# Altium footprint library TerminalBlock.PcbLib: 56 footprints (part 3 of 4)
Each footprint in its own frame and in the unit in brackets; x right, y up, seen from the top. Pads: shape width x height; smd on the part's side, far side on the other; paste and mask are expansions set on the pad; w line width, h text height; cw(c..) or ccw(c..) is an arc to the next point about the centre after c.
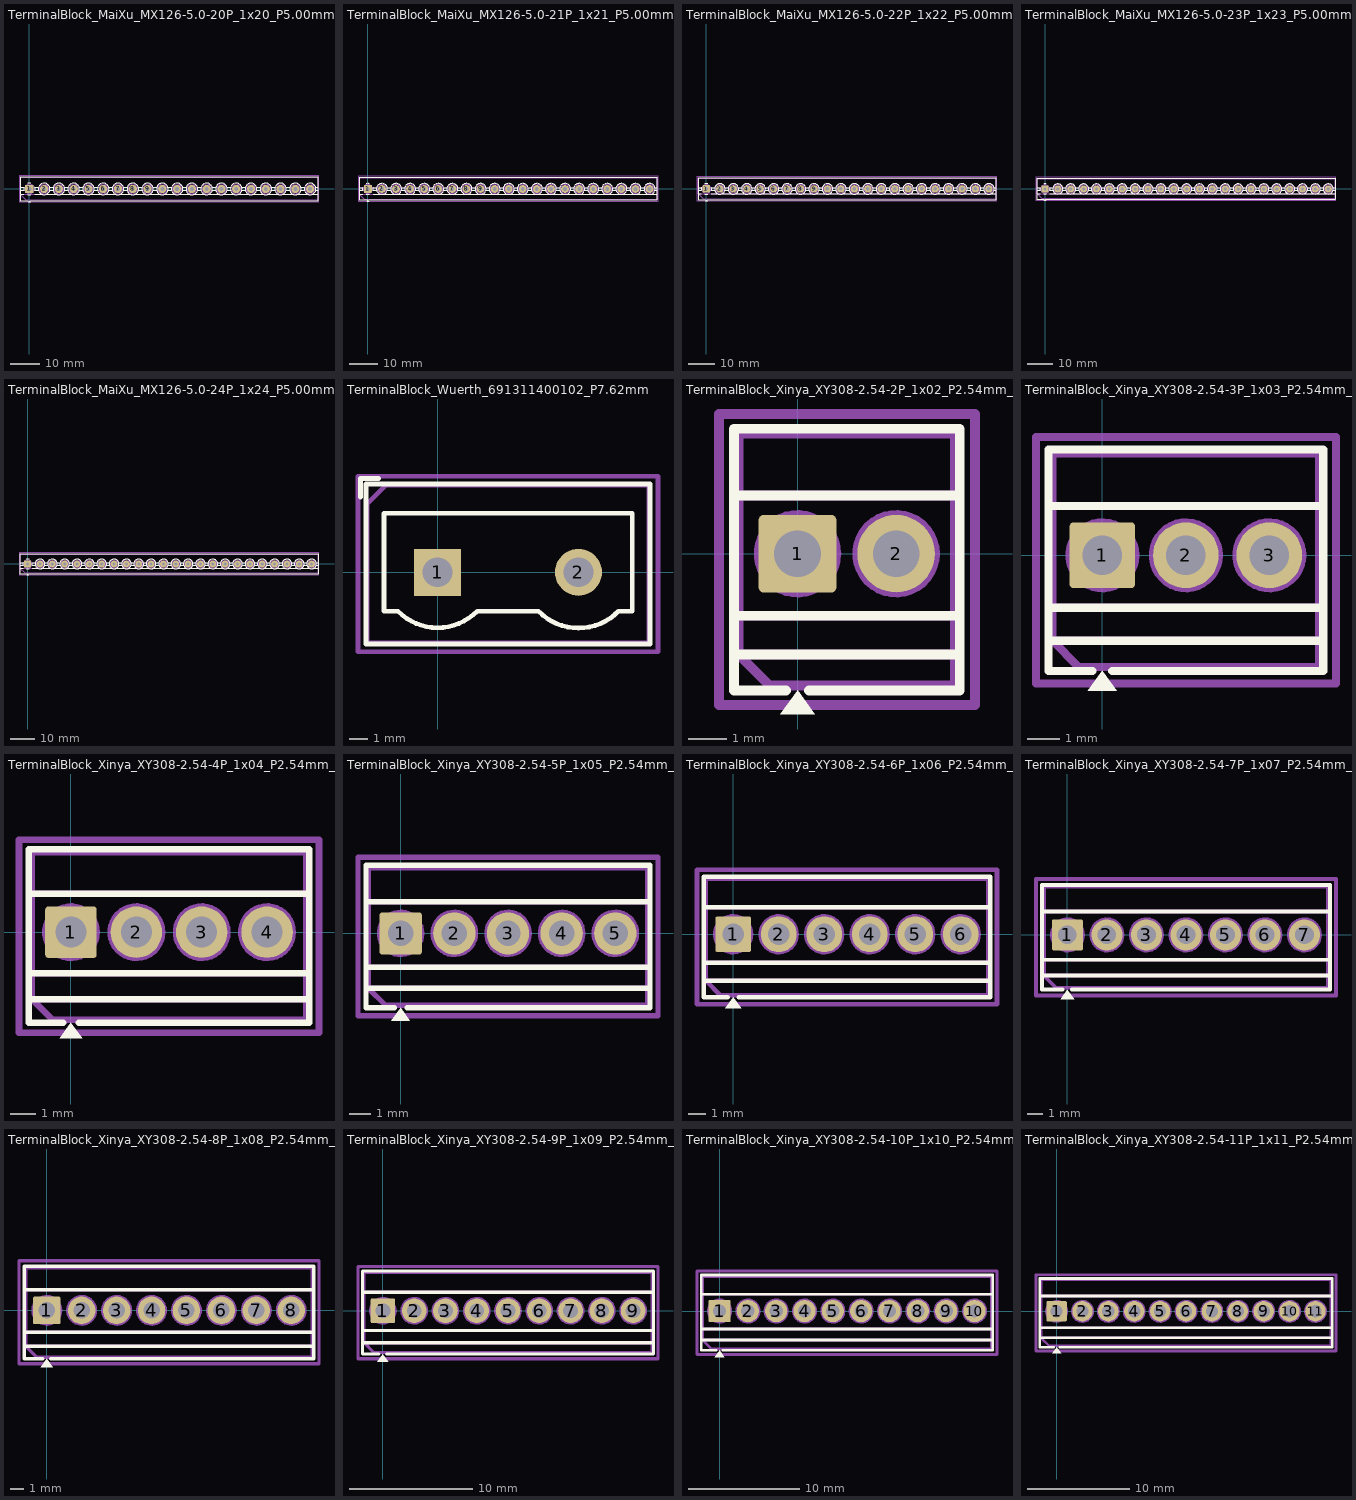
[diagram p2: the footprints below, top view; thin cyan lines are the x and y axes]

## TerminalBlock_MaiXu_MX126-5.0-20P_1x20_P5.00mm [mm]
pads (20):
  rrect9% 2.8x2.8 hole 1.3: 1(0,0)
  round 2.8 hole 1.3: 2(5,0) 3(10,0) 4(15,0) 5(20,0) 6(25,0) 7(30,0) 8(35,0) 9(40,0) 10(45,0) 11(50,0) 12(55,0) 13(60,0) 14(65,0) 15(70,0) 16(75,0) 17(80,0) 18(85,0) 19(90,0) 20(95,0)
F.SilkS:
  drawing of 168 lines, arcs and shapes, not listed
F.CrtYd:
  lines w0.254: -3.5,-4.31 -3.5,4.5 98,4.5 98,-4.31 -3.5,-4.31
F.Fab:
  circle w0.254: c0,0 r1.6
  circle w0.254: c5,0 r1.6
  circle w0.254: c10,0 r1.6
  circle w0.254: c15,0 r1.6
  circle w0.254: c20,0 r1.6
  circle w0.254: c25,0 r1.6
  circle w0.254: c30,0 r1.6
  circle w0.254: c35,0 r1.6
  circle w0.254: c40,0 r1.6
  circle w0.254: c45,0 r1.6
  circle w0.254: c50,0 r1.6
  circle w0.254: c55,0 r1.6
  circle w0.254: c60,0 r1.6
  circle w0.254: c65,0 r1.6
  circle w0.254: c70,0 r1.6
  circle w0.254: c75,0 r1.6
  circle w0.254: c80,0 r1.6
  circle w0.254: c85,0 r1.6
  circle w0.254: c90,0 r1.6
  circle w0.254: c95,0 r1.6
  lines w0.254: -3,-1.8 97.5,-1.8 ; -3,-0.5 97.5,-0.5 ; -3,0.5 97.5,0.5 ; -1.214,-1.018 1.018,1.213 ; -1.018,-1.213 1.213,1.018 ; 3.786,-1.018 6.018,1.213 ; 3.982,-1.213 6.213,1.018 ; 8.786,-1.018 11.018,1.213 ; 8.982,-1.213 11.213,1.018 ; 13.786,-1.018 16.018,1.213 ; 13.982,-1.213 16.213,1.018 ; 18.786,-1.018 21.018,1.213 ; 18.982,-1.213 21.213,1.018 ; 23.786,-1.018 26.018,1.213 ; 23.982,-1.213 26.213,1.018 ; 28.786,-1.018 31.018,1.213 ; 28.982,-1.213 31.213,1.018 ; 33.786,-1.018 36.018,1.213 ; 33.982,-1.213 36.213,1.018 ; 38.786,-1.018 41.018,1.213 ; 38.982,-1.213 41.213,1.018 ; 43.786,-1.018 46.018,1.213 ; 43.982,-1.213 46.213,1.018 ; 48.786,-1.018 51.018,1.213 ; 48.982,-1.213 51.213,1.018 ; 53.786,-1.018 56.018,1.213 ; 53.982,-1.213 56.213,1.018 ; 58.786,-1.018 61.018,1.213 ; 58.982,-1.213 61.213,1.018 ; 63.786,-1.018 66.018,1.213 ; 63.982,-1.213 66.213,1.018 ; 68.786,-1.018 71.018,1.213 ; 68.982,-1.213 71.213,1.018 ; 73.786,-1.018 76.018,1.213 ; 73.982,-1.213 76.213,1.018 ; 78.786,-1.018 81.018,1.213 ; 78.982,-1.213 81.213,1.018 ; 83.786,-1.018 86.018,1.213 ; 83.982,-1.213 86.213,1.018 ; 88.786,-1.018 91.018,1.213 ; 88.982,-1.213 91.213,1.018 ; 93.786,-1.018 96.018,1.213 ; 93.982,-1.213 96.213,1.018 ; -3,-1.85 -3,4 97.5,4 97.5,-3.8 -1.05,-3.8 -3,-1.85
  text "'.Designator'" at 45.811,-3.048 h1

## TerminalBlock_MaiXu_MX126-5.0-21P_1x21_P5.00mm [mm]
pads (21):
  rrect9% 2.8x2.8 hole 1.3: 1(0,0)
  round 2.8 hole 1.3: 2(5,0) 3(10,0) 4(15,0) 5(20,0) 6(25,0) 7(30,0) 8(35,0) 9(40,0) 10(45,0) 11(50,0) 12(55,0) 13(60,0) 14(65,0) 15(70,0) 16(75,0) 17(80,0) 18(85,0) 19(90,0) 20(95,0) 21(100,0)
F.SilkS:
  drawing of 176 lines, arcs and shapes, not listed
F.CrtYd:
  lines w0.254: -3.5,-4.31 -3.5,4.5 103,4.5 103,-4.31 -3.5,-4.31
F.Fab:
  circle w0.254: c0,0 r1.6
  circle w0.254: c5,0 r1.6
  circle w0.254: c10,0 r1.6
  circle w0.254: c15,0 r1.6
  circle w0.254: c20,0 r1.6
  circle w0.254: c25,0 r1.6
  circle w0.254: c30,0 r1.6
  circle w0.254: c35,0 r1.6
  circle w0.254: c40,0 r1.6
  circle w0.254: c45,0 r1.6
  circle w0.254: c50,0 r1.6
  circle w0.254: c55,0 r1.6
  circle w0.254: c60,0 r1.6
  circle w0.254: c65,0 r1.6
  circle w0.254: c70,0 r1.6
  circle w0.254: c75,0 r1.6
  circle w0.254: c80,0 r1.6
  circle w0.254: c85,0 r1.6
  circle w0.254: c90,0 r1.6
  circle w0.254: c95,0 r1.6
  circle w0.254: c100,0 r1.6
  lines w0.254: -3,-1.8 102.5,-1.8 ; -3,-0.5 102.5,-0.5 ; -3,0.5 102.5,0.5 ; -1.214,-1.018 1.018,1.213 ; -1.018,-1.213 1.213,1.018 ; 3.786,-1.018 6.018,1.213 ; 3.982,-1.213 6.213,1.018 ; 8.786,-1.018 11.018,1.213 ; 8.982,-1.213 11.213,1.018 ; 13.786,-1.018 16.018,1.213 ; 13.982,-1.213 16.213,1.018 ; 18.786,-1.018 21.018,1.213 ; 18.982,-1.213 21.213,1.018 ; 23.786,-1.018 26.018,1.213 ; 23.982,-1.213 26.213,1.018 ; 28.786,-1.018 31.018,1.213 ; 28.982,-1.213 31.213,1.018 ; 33.786,-1.018 36.018,1.213 ; 33.982,-1.213 36.213,1.018 ; 38.786,-1.018 41.018,1.213 ; 38.982,-1.213 41.213,1.018 ; 43.786,-1.018 46.018,1.213 ; 43.982,-1.213 46.213,1.018 ; 48.786,-1.018 51.018,1.213 ; 48.982,-1.213 51.213,1.018 ; 53.786,-1.018 56.018,1.213 ; 53.982,-1.213 56.213,1.018 ; 58.786,-1.018 61.018,1.213 ; 58.982,-1.213 61.213,1.018 ; 63.786,-1.018 66.018,1.213 ; 63.982,-1.213 66.213,1.018 ; 68.786,-1.018 71.018,1.213 ; 68.982,-1.213 71.213,1.018 ; 73.786,-1.018 76.018,1.213 ; 73.982,-1.213 76.213,1.018 ; 78.786,-1.018 81.018,1.213 ; 78.982,-1.213 81.213,1.018 ; 83.786,-1.018 86.018,1.213 ; 83.982,-1.213 86.213,1.018 ; 88.786,-1.018 91.018,1.213 ; 88.982,-1.213 91.213,1.018 ; 93.786,-1.018 96.018,1.213 ; 93.982,-1.213 96.213,1.018 ; 98.786,-1.018 101.018,1.213 ; 98.982,-1.213 101.213,1.018 ; -3,-1.85 -3,4 102.5,4 102.5,-3.8 -1.05,-3.8 -3,-1.85
  text "'.Designator'" at 48.311,-3.048 h1

## TerminalBlock_MaiXu_MX126-5.0-22P_1x22_P5.00mm [mm]
pads (22):
  rrect9% 2.8x2.8 hole 1.3: 1(0,0)
  round 2.8 hole 1.3: 2(5,0) 3(10,0) 4(15,0) 5(20,0) 6(25,0) 7(30,0) 8(35,0) 9(40,0) 10(45,0) 11(50,0) 12(55,0) 13(60,0) 14(65,0) 15(70,0) 16(75,0) 17(80,0) 18(85,0) 19(90,0) 20(95,0) 21(100,0) 22(105,0)
F.SilkS:
  drawing of 184 lines, arcs and shapes, not listed
F.CrtYd:
  lines w0.254: -3.5,-4.31 -3.5,4.5 108,4.5 108,-4.31 -3.5,-4.31
F.Fab:
  circle w0.254: c0,0 r1.6
  circle w0.254: c5,0 r1.6
  circle w0.254: c10,0 r1.6
  circle w0.254: c15,0 r1.6
  circle w0.254: c20,0 r1.6
  circle w0.254: c25,0 r1.6
  circle w0.254: c30,0 r1.6
  circle w0.254: c35,0 r1.6
  circle w0.254: c40,0 r1.6
  circle w0.254: c45,0 r1.6
  circle w0.254: c50,0 r1.6
  circle w0.254: c55,0 r1.6
  circle w0.254: c60,0 r1.6
  circle w0.254: c65,0 r1.6
  circle w0.254: c70,0 r1.6
  circle w0.254: c75,0 r1.6
  circle w0.254: c80,0 r1.6
  circle w0.254: c85,0 r1.6
  circle w0.254: c90,0 r1.6
  circle w0.254: c95,0 r1.6
  circle w0.254: c100,0 r1.6
  circle w0.254: c105,0 r1.6
  lines w0.254: -3,-1.8 107.5,-1.8 ; -3,-0.5 107.5,-0.5 ; -3,0.5 107.5,0.5 ; -1.214,-1.018 1.018,1.213 ; -1.018,-1.213 1.213,1.018 ; 3.786,-1.018 6.018,1.213 ; 3.982,-1.213 6.213,1.018 ; 8.786,-1.018 11.018,1.213 ; 8.982,-1.213 11.213,1.018 ; 13.786,-1.018 16.018,1.213 ; 13.982,-1.213 16.213,1.018 ; 18.786,-1.018 21.018,1.213 ; 18.982,-1.213 21.213,1.018 ; 23.786,-1.018 26.018,1.213 ; 23.982,-1.213 26.213,1.018 ; 28.786,-1.018 31.018,1.213 ; 28.982,-1.213 31.213,1.018 ; 33.786,-1.018 36.018,1.213 ; 33.982,-1.213 36.213,1.018 ; 38.786,-1.018 41.018,1.213 ; 38.982,-1.213 41.213,1.018 ; 43.786,-1.018 46.018,1.213 ; 43.982,-1.213 46.213,1.018 ; 48.786,-1.018 51.018,1.213 ; 48.982,-1.213 51.213,1.018 ; 53.786,-1.018 56.018,1.213 ; 53.982,-1.213 56.213,1.018 ; 58.786,-1.018 61.018,1.213 ; 58.982,-1.213 61.213,1.018 ; 63.786,-1.018 66.018,1.213 ; 63.982,-1.213 66.213,1.018 ; 68.786,-1.018 71.018,1.213 ; 68.982,-1.213 71.213,1.018 ; 73.786,-1.018 76.018,1.213 ; 73.982,-1.213 76.213,1.018 ; 78.786,-1.018 81.018,1.213 ; 78.982,-1.213 81.213,1.018 ; 83.786,-1.018 86.018,1.213 ; 83.982,-1.213 86.213,1.018 ; 88.786,-1.018 91.018,1.213 ; 88.982,-1.213 91.213,1.018 ; 93.786,-1.018 96.018,1.213 ; 93.982,-1.213 96.213,1.018 ; 98.786,-1.018 101.018,1.213 ; 98.982,-1.213 101.213,1.018 ; 103.786,-1.018 106.018,1.213 ; 103.982,-1.213 106.213,1.018 ; -3,-1.85 -3,4 107.5,4 107.5,-3.8 -1.05,-3.8 -3,-1.85
  text "'.Designator'" at 50.811,-3.048 h1

## TerminalBlock_MaiXu_MX126-5.0-23P_1x23_P5.00mm [mm]
pads (23):
  rrect9% 2.8x2.8 hole 1.3: 1(0,0)
  round 2.8 hole 1.3: 2(5,0) 3(10,0) 4(15,0) 5(20,0) 6(25,0) 7(30,0) 8(35,0) 9(40,0) 10(45,0) 11(50,0) 12(55,0) 13(60,0) 14(65,0) 15(70,0) 16(75,0) 17(80,0) 18(85,0) 19(90,0) 20(95,0) 21(100,0) 22(105,0) 23(110,0)
F.SilkS:
  drawing of 192 lines, arcs and shapes, not listed
F.CrtYd:
  lines w0.254: -3.5,-4.31 -3.5,4.5 113,4.5 113,-4.31 -3.5,-4.31
F.Fab:
  circle w0.254: c0,0 r1.6
  circle w0.254: c5,0 r1.6
  circle w0.254: c10,0 r1.6
  circle w0.254: c15,0 r1.6
  circle w0.254: c20,0 r1.6
  circle w0.254: c25,0 r1.6
  circle w0.254: c30,0 r1.6
  circle w0.254: c35,0 r1.6
  circle w0.254: c40,0 r1.6
  circle w0.254: c45,0 r1.6
  circle w0.254: c50,0 r1.6
  circle w0.254: c55,0 r1.6
  circle w0.254: c60,0 r1.6
  circle w0.254: c65,0 r1.6
  circle w0.254: c70,0 r1.6
  circle w0.254: c75,0 r1.6
  circle w0.254: c80,0 r1.6
  circle w0.254: c85,0 r1.6
  circle w0.254: c90,0 r1.6
  circle w0.254: c95,0 r1.6
  circle w0.254: c100,0 r1.6
  circle w0.254: c105,0 r1.6
  circle w0.254: c110,0 r1.6
  lines w0.254: -3,-1.8 112.5,-1.8 ; -3,-0.5 112.5,-0.5 ; -3,0.5 112.5,0.5 ; -1.214,-1.018 1.018,1.213 ; -1.018,-1.213 1.213,1.018 ; 3.786,-1.018 6.018,1.213 ; 3.982,-1.213 6.213,1.018 ; 8.786,-1.018 11.018,1.213 ; 8.982,-1.213 11.213,1.018 ; 13.786,-1.018 16.018,1.213 ; 13.982,-1.213 16.213,1.018 ; 18.786,-1.018 21.018,1.213 ; 18.982,-1.213 21.213,1.018 ; 23.786,-1.018 26.018,1.213 ; 23.982,-1.213 26.213,1.018 ; 28.786,-1.018 31.018,1.213 ; 28.982,-1.213 31.213,1.018 ; 33.786,-1.018 36.018,1.213 ; 33.982,-1.213 36.213,1.018 ; 38.786,-1.018 41.018,1.213 ; 38.982,-1.213 41.213,1.018 ; 43.786,-1.018 46.018,1.213 ; 43.982,-1.213 46.213,1.018 ; 48.786,-1.018 51.018,1.213 ; 48.982,-1.213 51.213,1.018 ; 53.786,-1.018 56.018,1.213 ; 53.982,-1.213 56.213,1.018 ; 58.786,-1.018 61.018,1.213 ; 58.982,-1.213 61.213,1.018 ; 63.786,-1.018 66.018,1.213 ; 63.982,-1.213 66.213,1.018 ; 68.786,-1.018 71.018,1.213 ; 68.982,-1.213 71.213,1.018 ; 73.786,-1.018 76.018,1.213 ; 73.982,-1.213 76.213,1.018 ; 78.786,-1.018 81.018,1.213 ; 78.982,-1.213 81.213,1.018 ; 83.786,-1.018 86.018,1.213 ; 83.982,-1.213 86.213,1.018 ; 88.786,-1.018 91.018,1.213 ; 88.982,-1.213 91.213,1.018 ; 93.786,-1.018 96.018,1.213 ; 93.982,-1.213 96.213,1.018 ; 98.786,-1.018 101.018,1.213 ; 98.982,-1.213 101.213,1.018 ; 103.786,-1.018 106.018,1.213 ; 103.982,-1.213 106.213,1.018 ; 108.786,-1.018 111.018,1.213 ; 108.982,-1.213 111.213,1.018 ; -3,-1.85 -3,4 112.5,4 112.5,-3.8 -1.05,-3.8 -3,-1.85
  text "'.Designator'" at 53.311,-3.048 h1

## TerminalBlock_MaiXu_MX126-5.0-24P_1x24_P5.00mm [mm]
pads (24):
  rrect9% 2.8x2.8 hole 1.3: 1(0,0)
  round 2.8 hole 1.3: 2(5,0) 3(10,0) 4(15,0) 5(20,0) 6(25,0) 7(30,0) 8(35,0) 9(40,0) 10(45,0) 11(50,0) 12(55,0) 13(60,0) 14(65,0) 15(70,0) 16(75,0) 17(80,0) 18(85,0) 19(90,0) 20(95,0) 21(100,0) 22(105,0) 23(110,0) 24(115,0)
F.SilkS:
  drawing of 200 lines, arcs and shapes, not listed
F.CrtYd:
  lines w0.254: -3.5,-4.31 -3.5,4.5 118,4.5 118,-4.31 -3.5,-4.31
F.Fab:
  circle w0.254: c0,0 r1.6
  circle w0.254: c5,0 r1.6
  circle w0.254: c10,0 r1.6
  circle w0.254: c15,0 r1.6
  circle w0.254: c20,0 r1.6
  circle w0.254: c25,0 r1.6
  circle w0.254: c30,0 r1.6
  circle w0.254: c35,0 r1.6
  circle w0.254: c40,0 r1.6
  circle w0.254: c45,0 r1.6
  circle w0.254: c50,0 r1.6
  circle w0.254: c55,0 r1.6
  circle w0.254: c60,0 r1.6
  circle w0.254: c65,0 r1.6
  circle w0.254: c70,0 r1.6
  circle w0.254: c75,0 r1.6
  circle w0.254: c80,0 r1.6
  circle w0.254: c85,0 r1.6
  circle w0.254: c90,0 r1.6
  circle w0.254: c95,0 r1.6
  circle w0.254: c100,0 r1.6
  circle w0.254: c105,0 r1.6
  circle w0.254: c110,0 r1.6
  circle w0.254: c115,0 r1.6
  lines w0.254: -3,-1.8 117.5,-1.8 ; -3,-0.5 117.5,-0.5 ; -3,0.5 117.5,0.5 ; -1.214,-1.018 1.018,1.213 ; -1.018,-1.213 1.213,1.018 ; 3.786,-1.018 6.018,1.213 ; 3.982,-1.213 6.213,1.018 ; 8.786,-1.018 11.018,1.213 ; 8.982,-1.213 11.213,1.018 ; 13.786,-1.018 16.018,1.213 ; 13.982,-1.213 16.213,1.018 ; 18.786,-1.018 21.018,1.213 ; 18.982,-1.213 21.213,1.018 ; 23.786,-1.018 26.018,1.213 ; 23.982,-1.213 26.213,1.018 ; 28.786,-1.018 31.018,1.213 ; 28.982,-1.213 31.213,1.018 ; 33.786,-1.018 36.018,1.213 ; 33.982,-1.213 36.213,1.018 ; 38.786,-1.018 41.018,1.213 ; 38.982,-1.213 41.213,1.018 ; 43.786,-1.018 46.018,1.213 ; 43.982,-1.213 46.213,1.018 ; 48.786,-1.018 51.018,1.213 ; 48.982,-1.213 51.213,1.018 ; 53.786,-1.018 56.018,1.213 ; 53.982,-1.213 56.213,1.018 ; 58.786,-1.018 61.018,1.213 ; 58.982,-1.213 61.213,1.018 ; 63.786,-1.018 66.018,1.213 ; 63.982,-1.213 66.213,1.018 ; 68.786,-1.018 71.018,1.213 ; 68.982,-1.213 71.213,1.018 ; 73.786,-1.018 76.018,1.213 ; 73.982,-1.213 76.213,1.018 ; 78.786,-1.018 81.018,1.213 ; 78.982,-1.213 81.213,1.018 ; 83.786,-1.018 86.018,1.213 ; 83.982,-1.213 86.213,1.018 ; 88.786,-1.018 91.018,1.213 ; 88.982,-1.213 91.213,1.018 ; 93.786,-1.018 96.018,1.213 ; 93.982,-1.213 96.213,1.018 ; 98.786,-1.018 101.018,1.213 ; 98.982,-1.213 101.213,1.018 ; 103.786,-1.018 106.018,1.213 ; 103.982,-1.213 106.213,1.018 ; 108.786,-1.018 111.018,1.213 ; 108.982,-1.213 111.213,1.018 ; 113.786,-1.018 116.018,1.213 ; 113.982,-1.213 116.213,1.018 ; -3,-1.85 -3,4 117.5,4 117.5,-3.8 -1.05,-3.8 -3,-1.85
  text "'.Designator'" at 55.811,-3.048 h1

## TerminalBlock_Wuerth_691311400102_P7.62mm [mm]
pads (2):
  rect 2.54x2.54 hole 1.6: 1(0,0)
  round 2.54 hole 1.6: 2(7.62,0)
F.SilkS:
  lines w0.254: -4.17,4.07 -4.17,5.07 -3.17,5.07 ; -3.87,4.77 -3.87,-3.87 11.49,-3.87 11.49,4.77 -3.86,4.77 ; 2.14,-2.1 5.46,-2.1 ccw(c7.62,0) 9.779,-2.101 ; 2.141,-2.099 cw(c0,0) -2.14,-2.1 -2.89,-2.1 -2.89,3.2 10.53,3.2 10.53,-2.1 9.78,-2.1
F.CrtYd:
  lines w0.254: -4.3,-4.3 -4.3,5.2 11.92,5.2 11.92,-4.3 -4.3,-4.3
F.Fab:
  lines w0.254: -3.8,-3.8 -3.8,3.7 -2.8,4.7 11.42,4.7 11.42,-3.8 -3.8,-3.8
  text "'.Designator'" at 2.371,-0.398 h1

## TerminalBlock_Xinya_XY308-2.54-2P_1x02_P2.54mm_Horizontal [mm]
pads (2):
  rrect12% 2x2 hole 1.2: 1(0,0)
  round 2 hole 1.2: 2(2.54,0)
F.SilkS:
  region: 0.44,-4.13 -0.44,-4.13 0,-3.52
  lines w0.254: -1.64,-2.6 4.18,-2.6 ; -1.64,-1.6 4.18,-1.6 ; -1.64,1.5 4.18,1.5 ; -0.3,-3.52 -1.64,-3.52 -1.64,3.22 4.18,3.22 4.18,-3.52 0.3,-3.52
F.CrtYd:
  lines w0.254: -2.02,-3.9 -2.02,3.6 4.57,3.6 4.57,-3.9 -2.02,-3.9
F.Fab:
  circle w0.254: c0,0 r1
  circle w0.254: c2.54,0 r1
  lines w0.254: -1.52,-1.6 4.06,-1.6 ; -1.52,1.5 4.06,1.5 ; -0.758,-0.636 0.636,0.758 ; -0.636,-0.758 0.758,0.636 ; 1.782,-0.636 3.176,0.758 ; 1.904,-0.758 3.298,0.636 ; 4.06,-2.6 -1.52,-2.6 ; -1.52,-2.6 -1.52,3.1 4.06,3.1 4.06,-3.4 -0.72,-3.4 -1.52,-2.6
  text "'.Designator'" at -0.169,-2.548 h1

## TerminalBlock_Xinya_XY308-2.54-3P_1x03_P2.54mm_Horizontal [mm]
pads (3):
  rrect12% 2x2 hole 1.2: 1(0,0)
  round 2 hole 1.2: 2(2.54,0) 3(5.08,0)
F.SilkS:
  region: 0.44,-4.13 -0.44,-4.13 0,-3.52
  lines w0.254: -1.64,-2.6 6.72,-2.6 ; -1.64,-1.6 6.72,-1.6 ; -1.64,1.5 6.72,1.5 ; -0.3,-3.52 -1.64,-3.52 -1.64,3.22 6.72,3.22 6.72,-3.52 0.3,-3.52
F.CrtYd:
  lines w0.254: -2.02,-3.9 -2.02,3.6 7.11,3.6 7.11,-3.9 -2.02,-3.9
F.Fab:
  circle w0.254: c0,0 r1
  circle w0.254: c2.54,0 r1
  circle w0.254: c5.08,0 r1
  lines w0.254: -1.52,-1.6 6.6,-1.6 ; -1.52,1.5 6.6,1.5 ; -0.758,-0.636 0.636,0.758 ; -0.636,-0.758 0.758,0.636 ; 1.782,-0.636 3.176,0.758 ; 1.904,-0.758 3.298,0.636 ; 4.322,-0.636 5.716,0.758 ; 4.444,-0.758 5.838,0.636 ; 6.6,-2.6 -1.52,-2.6 ; -1.52,-2.6 -1.52,3.1 6.6,3.1 6.6,-3.4 -0.72,-3.4 -1.52,-2.6
  text "'.Designator'" at 1.101,-2.548 h1

## TerminalBlock_Xinya_XY308-2.54-4P_1x04_P2.54mm_Horizontal [mm]
pads (4):
  rrect12% 2x2 hole 1.2: 1(0,0)
  round 2 hole 1.2: 2(2.54,0) 3(5.08,0) 4(7.62,0)
F.SilkS:
  region: 0.44,-4.13 -0.44,-4.13 0,-3.52
  lines w0.254: -1.64,-2.6 9.26,-2.6 ; -1.64,-1.6 9.26,-1.6 ; -1.64,1.5 9.26,1.5 ; -0.3,-3.52 -1.64,-3.52 -1.64,3.22 9.26,3.22 9.26,-3.52 0.3,-3.52
F.CrtYd:
  lines w0.254: -2.02,-3.9 -2.02,3.6 9.64,3.6 9.64,-3.9 -2.02,-3.9
F.Fab:
  circle w0.254: c0,0 r1
  circle w0.254: c2.54,0 r1
  circle w0.254: c5.08,0 r1
  circle w0.254: c7.62,0 r1
  lines w0.254: -1.52,-1.6 9.14,-1.6 ; -1.52,1.5 9.14,1.5 ; -0.758,-0.636 0.636,0.758 ; -0.636,-0.758 0.758,0.636 ; 1.782,-0.636 3.176,0.758 ; 1.904,-0.758 3.298,0.636 ; 4.322,-0.636 5.716,0.758 ; 4.444,-0.758 5.838,0.636 ; 6.862,-0.636 8.256,0.758 ; 6.984,-0.758 8.378,0.636 ; 9.14,-2.6 -1.52,-2.6 ; -1.52,-2.6 -1.52,3.1 9.14,3.1 9.14,-3.4 -0.72,-3.4 -1.52,-2.6
  text "'.Designator'" at 2.371,-2.548 h1

## TerminalBlock_Xinya_XY308-2.54-5P_1x05_P2.54mm_Horizontal [mm]
pads (5):
  rrect12% 2x2 hole 1.2: 1(0,0)
  round 2 hole 1.2: 2(2.54,0) 3(5.08,0) 4(7.62,0) 5(10.16,0)
F.SilkS:
  region: 0.44,-4.13 -0.44,-4.13 0,-3.52
  lines w0.254: -1.64,-2.6 11.8,-2.6 ; -1.64,-1.6 11.8,-1.6 ; -1.64,1.5 11.8,1.5 ; -0.3,-3.52 -1.64,-3.52 -1.64,3.22 11.8,3.22 11.8,-3.52 0.3,-3.52
F.CrtYd:
  lines w0.254: -2.02,-3.9 -2.02,3.6 12.18,3.6 12.18,-3.9 -2.02,-3.9
F.Fab:
  circle w0.254: c0,0 r1
  circle w0.254: c2.54,0 r1
  circle w0.254: c5.08,0 r1
  circle w0.254: c7.62,0 r1
  circle w0.254: c10.16,0 r1
  lines w0.254: -1.52,-1.6 11.68,-1.6 ; -1.52,1.5 11.68,1.5 ; -0.758,-0.636 0.636,0.758 ; -0.636,-0.758 0.758,0.636 ; 1.782,-0.636 3.176,0.758 ; 1.904,-0.758 3.298,0.636 ; 4.322,-0.636 5.716,0.758 ; 4.444,-0.758 5.838,0.636 ; 6.862,-0.636 8.256,0.758 ; 6.984,-0.758 8.378,0.636 ; 9.402,-0.636 10.796,0.758 ; 9.524,-0.758 10.918,0.636 ; 11.68,-2.6 -1.52,-2.6 ; -1.52,-2.6 -1.52,3.1 11.68,3.1 11.68,-3.4 -0.72,-3.4 -1.52,-2.6
  text "'.Designator'" at 3.641,-2.548 h1

## TerminalBlock_Xinya_XY308-2.54-6P_1x06_P2.54mm_Horizontal [mm]
pads (6):
  rrect12% 2x2 hole 1.2: 1(0,0)
  round 2 hole 1.2: 2(2.54,0) 3(5.08,0) 4(7.62,0) 5(10.16,0) 6(12.7,0)
F.SilkS:
  region: 0.44,-4.13 -0.44,-4.13 0,-3.52
  lines w0.254: -1.64,-2.6 14.34,-2.6 ; -1.64,-1.6 14.34,-1.6 ; -1.64,1.5 14.34,1.5 ; -0.3,-3.52 -1.64,-3.52 -1.64,3.22 14.34,3.22 14.34,-3.52 0.3,-3.52
F.CrtYd:
  lines w0.254: -2.02,-3.9 -2.02,3.6 14.72,3.6 14.72,-3.9 -2.02,-3.9
F.Fab:
  circle w0.254: c0,0 r1
  circle w0.254: c2.54,0 r1
  circle w0.254: c5.08,0 r1
  circle w0.254: c7.62,0 r1
  circle w0.254: c10.16,0 r1
  circle w0.254: c12.7,0 r1
  lines w0.254: -1.52,-1.6 14.22,-1.6 ; -1.52,1.5 14.22,1.5 ; -0.758,-0.636 0.636,0.758 ; -0.636,-0.758 0.758,0.636 ; 1.782,-0.636 3.176,0.758 ; 1.904,-0.758 3.298,0.636 ; 4.322,-0.636 5.716,0.758 ; 4.444,-0.758 5.838,0.636 ; 6.862,-0.636 8.256,0.758 ; 6.984,-0.758 8.378,0.636 ; 9.402,-0.636 10.796,0.758 ; 9.524,-0.758 10.918,0.636 ; 11.942,-0.636 13.336,0.758 ; 12.064,-0.758 13.458,0.636 ; 14.22,-2.6 -1.52,-2.6 ; -1.52,-2.6 -1.52,3.1 14.22,3.1 14.22,-3.4 -0.72,-3.4 -1.52,-2.6
  text "'.Designator'" at 4.911,-2.548 h1

## TerminalBlock_Xinya_XY308-2.54-7P_1x07_P2.54mm_Horizontal [mm]
pads (7):
  rrect12% 2x2 hole 1.2: 1(0,0)
  round 2 hole 1.2: 2(2.54,0) 3(5.08,0) 4(7.62,0) 5(10.16,0) 6(12.7,0) 7(15.24,0)
F.SilkS:
  region: 0.44,-4.13 -0.44,-4.13 0,-3.52
  lines w0.254: -1.64,-2.6 16.88,-2.6 ; -1.64,-1.6 16.88,-1.6 ; -1.64,1.5 16.88,1.5 ; -0.3,-3.52 -1.64,-3.52 -1.64,3.22 16.88,3.22 16.88,-3.52 0.3,-3.52
F.CrtYd:
  lines w0.254: -2.02,-3.9 -2.02,3.6 17.27,3.6 17.27,-3.9 -2.02,-3.9
F.Fab:
  circle w0.254: c0,0 r1
  circle w0.254: c2.54,0 r1
  circle w0.254: c5.08,0 r1
  circle w0.254: c7.62,0 r1
  circle w0.254: c10.16,0 r1
  circle w0.254: c12.7,0 r1
  circle w0.254: c15.24,0 r1
  lines w0.254: -1.52,-1.6 16.76,-1.6 ; -1.52,1.5 16.76,1.5 ; -0.758,-0.636 0.636,0.758 ; -0.636,-0.758 0.758,0.636 ; 1.782,-0.636 3.176,0.758 ; 1.904,-0.758 3.298,0.636 ; 4.322,-0.636 5.716,0.758 ; 4.444,-0.758 5.838,0.636 ; 6.862,-0.636 8.256,0.758 ; 6.984,-0.758 8.378,0.636 ; 9.402,-0.636 10.796,0.758 ; 9.524,-0.758 10.918,0.636 ; 11.942,-0.636 13.336,0.758 ; 12.064,-0.758 13.458,0.636 ; 14.482,-0.636 15.876,0.758 ; 14.604,-0.758 15.998,0.636 ; 16.76,-2.6 -1.52,-2.6 ; -1.52,-2.6 -1.52,3.1 16.76,3.1 16.76,-3.4 -0.72,-3.4 -1.52,-2.6
  text "'.Designator'" at 6.181,-2.548 h1

## TerminalBlock_Xinya_XY308-2.54-8P_1x08_P2.54mm_Horizontal [mm]
pads (8):
  rrect12% 2x2 hole 1.2: 1(0,0)
  round 2 hole 1.2: 2(2.54,0) 3(5.08,0) 4(7.62,0) 5(10.16,0) 6(12.7,0) 7(15.24,0) 8(17.78,0)
F.SilkS:
  region: 0.44,-4.13 -0.44,-4.13 0,-3.52
  lines w0.254: -1.64,-2.6 19.42,-2.6 ; -1.64,-1.6 19.42,-1.6 ; -1.64,1.5 19.42,1.5 ; -0.3,-3.52 -1.64,-3.52 -1.64,3.22 19.42,3.22 19.42,-3.52 0.3,-3.52
F.CrtYd:
  lines w0.254: -2.02,-3.9 -2.02,3.6 19.8,3.6 19.8,-3.9 -2.02,-3.9
F.Fab:
  circle w0.254: c0,0 r1
  circle w0.254: c2.54,0 r1
  circle w0.254: c5.08,0 r1
  circle w0.254: c7.62,0 r1
  circle w0.254: c10.16,0 r1
  circle w0.254: c12.7,0 r1
  circle w0.254: c15.24,0 r1
  circle w0.254: c17.78,0 r1
  lines w0.254: -1.52,-1.6 19.3,-1.6 ; -1.52,1.5 19.3,1.5 ; -0.758,-0.636 0.636,0.758 ; -0.636,-0.758 0.758,0.636 ; 1.782,-0.636 3.176,0.758 ; 1.904,-0.758 3.298,0.636 ; 4.322,-0.636 5.716,0.758 ; 4.444,-0.758 5.838,0.636 ; 6.862,-0.636 8.256,0.758 ; 6.984,-0.758 8.378,0.636 ; 9.402,-0.636 10.796,0.758 ; 9.524,-0.758 10.918,0.636 ; 11.942,-0.636 13.336,0.758 ; 12.064,-0.758 13.458,0.636 ; 14.482,-0.636 15.876,0.758 ; 14.604,-0.758 15.998,0.636 ; 17.022,-0.636 18.416,0.758 ; 17.144,-0.758 18.538,0.636 ; 19.3,-2.6 -1.52,-2.6 ; -1.52,-2.6 -1.52,3.1 19.3,3.1 19.3,-3.4 -0.72,-3.4 -1.52,-2.6
  text "'.Designator'" at 7.451,-2.548 h1

## TerminalBlock_Xinya_XY308-2.54-9P_1x09_P2.54mm_Horizontal [mm]
pads (9):
  rrect12% 2x2 hole 1.2: 1(0,0)
  round 2 hole 1.2: 2(2.54,0) 3(5.08,0) 4(7.62,0) 5(10.16,0) 6(12.7,0) 7(15.24,0) 8(17.78,0) 9(20.32,0)
F.SilkS:
  region: 0.44,-4.13 -0.44,-4.13 0,-3.52
  lines w0.254: -1.64,-2.6 21.96,-2.6 ; -1.64,-1.6 21.96,-1.6 ; -1.64,1.5 21.96,1.5 ; -0.3,-3.52 -1.64,-3.52 -1.64,3.22 21.96,3.22 21.96,-3.52 0.3,-3.52
F.CrtYd:
  lines w0.254: -2.02,-3.9 -2.02,3.6 22.34,3.6 22.34,-3.9 -2.02,-3.9
F.Fab:
  circle w0.254: c0,0 r1
  circle w0.254: c2.54,0 r1
  circle w0.254: c5.08,0 r1
  circle w0.254: c7.62,0 r1
  circle w0.254: c10.16,0 r1
  circle w0.254: c12.7,0 r1
  circle w0.254: c15.24,0 r1
  circle w0.254: c17.78,0 r1
  circle w0.254: c20.32,0 r1
  lines w0.254: -1.52,-1.6 21.84,-1.6 ; -1.52,1.5 21.84,1.5 ; -0.758,-0.636 0.636,0.758 ; -0.636,-0.758 0.758,0.636 ; 1.782,-0.636 3.176,0.758 ; 1.904,-0.758 3.298,0.636 ; 4.322,-0.636 5.716,0.758 ; 4.444,-0.758 5.838,0.636 ; 6.862,-0.636 8.256,0.758 ; 6.984,-0.758 8.378,0.636 ; 9.402,-0.636 10.796,0.758 ; 9.524,-0.758 10.918,0.636 ; 11.942,-0.636 13.336,0.758 ; 12.064,-0.758 13.458,0.636 ; 14.482,-0.636 15.876,0.758 ; 14.604,-0.758 15.998,0.636 ; 17.022,-0.636 18.416,0.758 ; 17.144,-0.758 18.538,0.636 ; 19.562,-0.636 20.956,0.758 ; 19.684,-0.758 21.078,0.636 ; 21.84,-2.6 -1.52,-2.6 ; -1.52,-2.6 -1.52,3.1 21.84,3.1 21.84,-3.4 -0.72,-3.4 -1.52,-2.6
  text "'.Designator'" at 8.721,-2.548 h1

## TerminalBlock_Xinya_XY308-2.54-10P_1x10_P2.54mm_Horizontal [mm]
pads (10):
  rrect12% 2x2 hole 1.2: 1(0,0)
  round 2 hole 1.2: 2(2.54,0) 3(5.08,0) 4(7.62,0) 5(10.16,0) 6(12.7,0) 7(15.24,0) 8(17.78,0) 9(20.32,0) 10(22.86,0)
F.SilkS:
  region: 0.44,-4.13 -0.44,-4.13 0,-3.52
  lines w0.254: -1.64,-2.6 24.5,-2.6 ; -1.64,-1.6 24.5,-1.6 ; -1.64,1.5 24.5,1.5 ; -0.3,-3.52 -1.64,-3.52 -1.64,3.22 24.5,3.22 24.5,-3.52 0.3,-3.52
F.CrtYd:
  lines w0.254: -2.02,-3.9 -2.02,3.6 24.88,3.6 24.88,-3.9 -2.02,-3.9
F.Fab:
  circle w0.254: c0,0 r1
  circle w0.254: c2.54,0 r1
  circle w0.254: c5.08,0 r1
  circle w0.254: c7.62,0 r1
  circle w0.254: c10.16,0 r1
  circle w0.254: c12.7,0 r1
  circle w0.254: c15.24,0 r1
  circle w0.254: c17.78,0 r1
  circle w0.254: c20.32,0 r1
  circle w0.254: c22.86,0 r1
  lines w0.254: -1.52,-1.6 24.38,-1.6 ; -1.52,1.5 24.38,1.5 ; -0.758,-0.636 0.636,0.758 ; -0.636,-0.758 0.758,0.636 ; 1.782,-0.636 3.176,0.758 ; 1.904,-0.758 3.298,0.636 ; 4.322,-0.636 5.716,0.758 ; 4.444,-0.758 5.838,0.636 ; 6.862,-0.636 8.256,0.758 ; 6.984,-0.758 8.378,0.636 ; 9.402,-0.636 10.796,0.758 ; 9.524,-0.758 10.918,0.636 ; 11.942,-0.636 13.336,0.758 ; 12.064,-0.758 13.458,0.636 ; 14.482,-0.636 15.876,0.758 ; 14.604,-0.758 15.998,0.636 ; 17.022,-0.636 18.416,0.758 ; 17.144,-0.758 18.538,0.636 ; 19.562,-0.636 20.956,0.758 ; 19.684,-0.758 21.078,0.636 ; 22.102,-0.636 23.496,0.758 ; 22.224,-0.758 23.618,0.636 ; 24.38,-2.6 -1.52,-2.6 ; -1.52,-2.6 -1.52,3.1 24.38,3.1 24.38,-3.4 -0.72,-3.4 -1.52,-2.6
  text "'.Designator'" at 9.991,-2.548 h1

## TerminalBlock_Xinya_XY308-2.54-11P_1x11_P2.54mm_Horizontal [mm]
pads (11):
  rrect12% 2x2 hole 1.2: 1(0,0)
  round 2 hole 1.2: 2(2.54,0) 3(5.08,0) 4(7.62,0) 5(10.16,0) 6(12.7,0) 7(15.24,0) 8(17.78,0) 9(20.32,0) 10(22.86,0) 11(25.4,0)
F.SilkS:
  region: 0.44,-4.13 -0.44,-4.13 0,-3.52
  lines w0.254: -1.64,-2.6 27.04,-2.6 ; -1.64,-1.6 27.04,-1.6 ; -1.64,1.5 27.04,1.5 ; -0.3,-3.52 -1.64,-3.52 -1.64,3.22 27.04,3.22 27.04,-3.52 0.3,-3.52
F.CrtYd:
  lines w0.254: -2.02,-3.9 -2.02,3.6 27.42,3.6 27.42,-3.9 -2.02,-3.9
F.Fab:
  circle w0.254: c0,0 r1
  circle w0.254: c2.54,0 r1
  circle w0.254: c5.08,0 r1
  circle w0.254: c7.62,0 r1
  circle w0.254: c10.16,0 r1
  circle w0.254: c12.7,0 r1
  circle w0.254: c15.24,0 r1
  circle w0.254: c17.78,0 r1
  circle w0.254: c20.32,0 r1
  circle w0.254: c22.86,0 r1
  circle w0.254: c25.4,0 r1
  lines w0.254: -1.52,-1.6 26.92,-1.6 ; -1.52,1.5 26.92,1.5 ; -0.758,-0.636 0.636,0.758 ; -0.636,-0.758 0.758,0.636 ; 1.782,-0.636 3.176,0.758 ; 1.904,-0.758 3.298,0.636 ; 4.322,-0.636 5.716,0.758 ; 4.444,-0.758 5.838,0.636 ; 6.862,-0.636 8.256,0.758 ; 6.984,-0.758 8.378,0.636 ; 9.402,-0.636 10.796,0.758 ; 9.524,-0.758 10.918,0.636 ; 11.942,-0.636 13.336,0.758 ; 12.064,-0.758 13.458,0.636 ; 14.482,-0.636 15.876,0.758 ; 14.604,-0.758 15.998,0.636 ; 17.022,-0.636 18.416,0.758 ; 17.144,-0.758 18.538,0.636 ; 19.562,-0.636 20.956,0.758 ; 19.684,-0.758 21.078,0.636 ; 22.102,-0.636 23.496,0.758 ; 22.224,-0.758 23.618,0.636 ; 24.642,-0.636 26.036,0.758 ; 24.764,-0.758 26.158,0.636 ; 26.92,-2.6 -1.52,-2.6 ; -1.52,-2.6 -1.52,3.1 26.92,3.1 26.92,-3.4 -0.72,-3.4 -1.52,-2.6
  text "'.Designator'" at 11.261,-2.548 h1